# EAGLE library part P82B96 (library greg-IC)
I2C compatible dual bidirectional bus buffer Texas Instruments P82B96 The P82B96 device is a bus buffer that supports bidirectional data transfer between an I2C bus and a range of other bus configurations with different voltage and current levels. One of the advantages of the P82B96 is that it supports longer cables/traces and allows for more devices per I2C bus because it can isolate bus capacitance such that the total loading of the new bus or remote I2C nodes are not apparent to other I2C busses or nodes. The restrictions on the number of devices in a system due to capacitance or the physical separation between them, are greatly improved. Operating power supply voltage range of 2V to 15V Can interface between I2C busses operating at different logic levels. Longer cables by allowing bus capacitance of 400pF on the main side (Sx/Sy) and 4000pF on the transmission side (Tx/Ty). Outputs on the transmission side (Tx/Ty) have higher current sink capability for driving low impedance or high capacitance busses. 400kHz fast I2C bus operation over at least 20 meters of wire. P82B96 Datasheet <http://www.ti.com/lit/ds/symlink/p82b96.pdf>
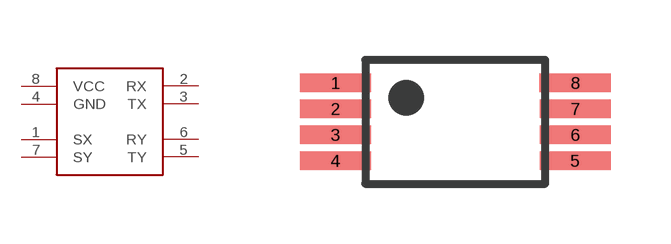
[diagram p3: symbol with the pads of SSOP8; footprint SSOP8]

Designator prefix U

## P82B96PW  [SSOP8]
1  SX
2  RX
3  TX
4  GND  pwr
5  TY
6  RY
7  SY
8  VCC  pwr

## Footprint SSOP8 (pad centres in mm)
smd 1.8 x 0.45: 1 -3,0.925; 2 -3,0.275; 3 -3,-0.375; 4 -3,-1.025; 5 3,-1.025; 6 3,-0.375; 7 3,0.275; 8 3,0.925